# Altium schematic symbol library POGO.SchLib: 1 symbol
Pins are listed as number, name and electrical type; pins without a type are passive.

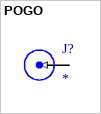
[diagram p0: symbol POGO]

## POGO
designator J?
pins: 1 (in)